# Altium footprint library VH3.96_母座.PcbLib: 9 footprints
Each footprint in its own frame and in the unit in brackets; x right, y up, seen from the top. Pads: shape width x height; smd on the part's side, far side on the other; paste and mask are expansions set on the pad; w line width, h text height; cw(c..) or ccw(c..) is an arc to the next point about the centre after c.
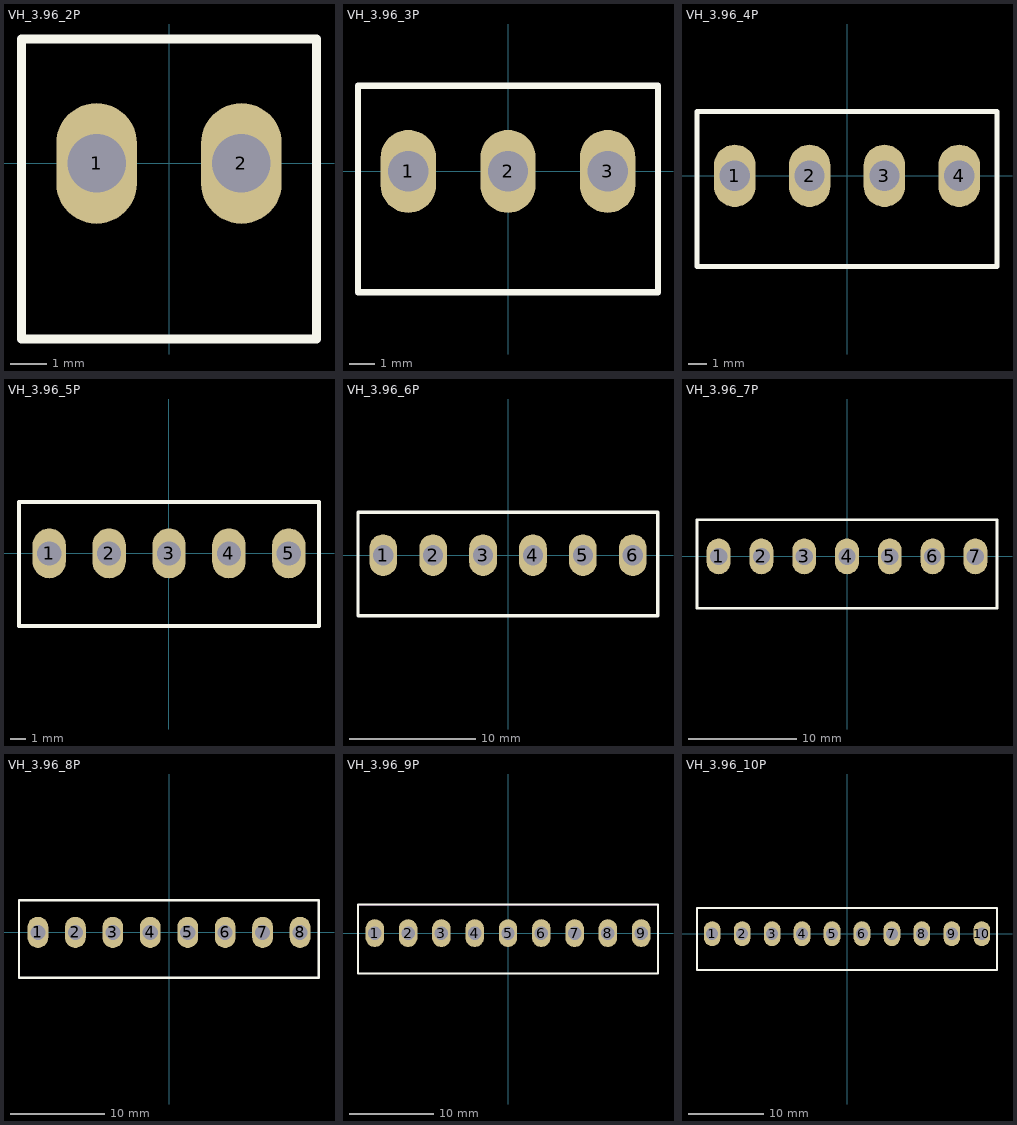
[diagram p0: the footprints below, top view; thin cyan lines are the x and y axes]

## VH_3.96_2P [mm]
pads (2):
  oval 2.2x3.3 hole 1.6: 1(-1.98,0) 2(1.98,0)
Top Overlay:
  lines w0.254: -4.03,-4.8 4.03,-4.8 4.03,3.4 -4.03,3.4 -4.03,-4.8
Mechanical 15:
  lines w0.1: -4.03,-4.8 4.03,-4.8 4.03,3.4 -4.03,3.4 -4.03,-4.8
3D body "VH-3.96-2.STEP": height 10.9, standoff -3.7, extent -3.905,-4.6 3.955,3.9

## VH_3.96_3P [mm]
pads (3):
  oval 2.2x3.3 hole 1.6: 1(-3.96,0) 2(0,0) 3(3.96,0)
Top Overlay:
  lines w0.254: -5.96,-4.8 -5.96,3.4 5.96,3.4 5.96,-4.8 -5.96,-4.8
Mechanical 15:
  lines w0.1: -5.96,-4.8 -5.96,3.4 5.96,3.4 5.96,-4.8 -5.96,-4.8
3D body "VH-3.96-3.STEP": height 10.9, standoff -3.7, extent -5.885,-4.6 5.935,3.9

## VH_3.96_4P [mm]
pads (4):
  oval 2.2x3.3 hole 1.6: 1(-5.94,0) 2(-1.98,0) 3(1.98,0) 4(5.94,0)
Top Overlay:
  lines w0.254: -7.94,-4.8 -7.94,3.4 7.94,3.4 7.94,-4.8 -7.94,-4.8
Mechanical 15:
  lines w0.1: -7.94,-4.8 7.94,-4.8 7.94,3.4 -7.94,3.4 -7.94,-4.8
3D body "VH-3.96-4.STEP": height 10.9, standoff -3.7, extent -7.865,-4.6 7.915,3.9

## VH_3.96_5P [mm]
pads (5):
  oval 2.2x3.3 hole 1.6: 1(-7.92,0) 2(-3.96,0) 3(0,0) 4(3.96,0) 5(7.92,0)
Top Overlay:
  lines w0.254: -9.92,-4.8 -9.92,3.4 9.92,3.4 9.92,-4.8 -9.92,-4.8
Mechanical 15:
  lines w0.1: -9.92,-4.8 9.92,-4.8 9.92,3.4 -9.92,3.4 -9.92,-4.8
3D body "VH-3.96-5.STEP": height 10.9, standoff -3.7, extent -9.845,-4.6 9.895,3.9

## VH_3.96_6P [mm]
pads (6):
  oval 2.2x3.3 hole 1.6: 1(-9.9,0) 2(-5.94,0) 3(-1.98,0) 4(1.98,0) 5(5.94,0) 6(9.9,0)
Top Overlay:
  lines w0.254: -11.9,-4.8 -11.9,3.4 11.88,3.4 11.88,-4.8 -11.9,-4.8
Mechanical 15:
  lines w0.1: -11.9,-4.8 11.9,-4.8 11.9,3.4 -11.9,3.4 -11.9,-4.8
3D body "VH-3.96-3.STEP": height 10.9, standoff -3.7, extent -0.005,-4.6 11.815,3.9
3D body "VH-3.96-3.STEP": height 10.9, standoff -3.7, extent -11.825,-4.6 -0.005,3.9

## VH_3.96_7P [mm]
pads (7):
  oval 2.2x3.3 hole 1.6: 1(-11.88,0) 2(-7.92,0) 3(-3.96,0) 4(0,0) 5(3.96,0) 6(7.92,0) 7(11.88,0)
Top Overlay:
  lines w0.254: -13.88,-4.8 -13.88,3.4 13.88,3.4 13.88,-4.8 -13.88,-4.8
Mechanical 15:
  lines w0.1: -13.88,-4.8 13.88,-4.8 13.88,3.4 -13.88,3.4 -13.88,-4.8
3D body "VH-3.96-7.STEP": height 10.9, standoff -3.7, extent -13.855,-4.8 13.805,3.7

## VH_3.96_8P [mm]
pads (8):
  oval 2.2x3.3 hole 1.6: 1(-13.86,0) 2(-9.9,0) 3(-5.94,0) 4(-1.98,0) 5(1.98,0) 6(5.94,0) 7(9.9,0) 8(13.86,0)
Top Overlay:
  lines w0.254: -15.86,-4.8 15.84,-4.8 15.84,3.4 -15.86,3.4 -15.86,-4.8
Mechanical 15:
  lines w0.1: 15.84,3.4 -15.86,3.4 -15.86,-4.8 15.86,-4.8 15.86,3.4
3D body "VH-3.96-8.STEP": height 10.9, standoff -3.7, extent -15.785,-4.6 15.835,3.9

## VH_3.96_9P [mm]
pads (9):
  oval 2.2x3.3 hole 1.6: 1(-15.84,0) 2(-11.88,0) 3(-7.92,0) 4(-3.96,0) 5(0,0) 6(3.96,0) 7(7.92,0) 8(11.88,0) 9(15.84,0)
Top Overlay:
  lines w0.254: -17.84,-4.8 17.84,-4.8 17.84,3.4 -17.84,3.4 -17.84,-4.8
Mechanical 15:
  lines w0.1: -17.84,-4.8 -17.84,3.4 17.84,3.4 17.84,-4.8 -17.84,-4.8
3D body "VH-3.96-9.STEP": height 10.9, standoff -3.7, extent -17.765,-4.6 17.815,3.9

## VH_3.96_10P [mm]
pads (10):
  oval 2.2x3.3 hole 1.6: 1(-17.82,0) 2(-13.86,0) 3(-9.9,0) 4(-5.94,0) 5(-1.98,0) 6(1.98,0) 7(5.94,0) 8(9.9,0) 9(13.86,0) 10(17.82,0)
Top Overlay:
  lines w0.254: -19.82,-4.8 19.8,-4.8 19.8,3.4 -19.82,3.4 -19.82,-4.8
Mechanical 15:
  lines w0.1: -19.82,-4.8 -19.82,3.4 19.82,3.4 19.82,-4.8 -19.82,-4.8
3D body "VH-3.96-10.STEP": height 10.9, standoff -3.7, extent -19.745,-4.6 19.795,3.9